# Altium footprint library Axial Inductors.PcbLib: 2 footprints
Each footprint in its own frame and in the unit in brackets; x right, y up, seen from the top. Pads: shape width x height; smd on the part's side, far side on the other; paste and mask are expansions set on the pad; w line width, h text height; cw(c..) or ccw(c..) is an arc to the next point about the centre after c.
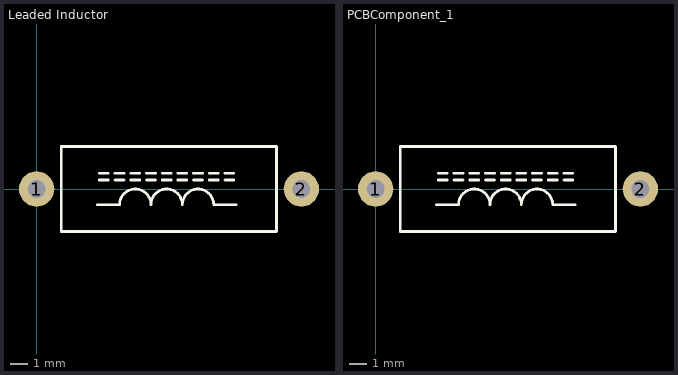
[diagram p0: the footprints below, top view; thin cyan lines are the x and y axes]

## Leaded Inductor [mm] "100mH Unshielded Wirewound Inductor 20mA 420 Ohm Max Axial"
pads (2):
  round 2 hole 1: 1(0,0) 2(15,0)
Top Overlay:
  lines w0.152: 3.429,-0.889 4.699,-0.889 cw(c5.588,-0.889) 6.477,-0.889 cw(c7.366,-0.889) 8.255,-0.889 cw(c9.144,-0.889) 10.033,-0.889 11.303,-0.889 ; 3.556,0.508 4.064,0.508 ; 3.556,0.889 4.064,0.889 ; 4.445,0.508 4.953,0.508 ; 4.445,0.889 4.953,0.889 ; 5.334,0.508 5.842,0.508 ; 5.334,0.889 5.842,0.889 ; 6.223,0.508 6.731,0.508 ; 6.223,0.889 6.731,0.889 ; 7.112,0.508 7.62,0.508 ; 7.112,0.889 7.62,0.889 ; 8.001,0.508 8.509,0.508 ; 8.001,0.889 8.509,0.889 ; 8.89,0.508 9.398,0.508 ; 8.89,0.889 9.398,0.889 ; 9.779,0.508 10.287,0.508 ; 9.779,0.889 10.287,0.889 ; 10.668,0.508 11.176,0.508 ; 10.668,0.889 11.176,0.889 ; 1.397,-2.413 13.589,-2.413 13.589,2.413 1.397,2.413 1.397,-2.413
3D body "axial_inductor.STEP": height 4.79, standoff -1.96, extent -0.381,-2.25 15.319,2.25

## PCBComponent_1 [mm]
pads (2):
  round 2 hole 1: 1(0,0) 2(15,0)
Top Overlay:
  lines w0.152: 3.429,-0.889 4.699,-0.889 cw(c5.588,-0.889) 6.477,-0.889 cw(c7.366,-0.889) 8.255,-0.889 cw(c9.144,-0.889) 10.033,-0.889 11.303,-0.889 ; 3.556,0.508 4.064,0.508 ; 3.556,0.889 4.064,0.889 ; 4.445,0.508 4.953,0.508 ; 4.445,0.889 4.953,0.889 ; 5.334,0.508 5.842,0.508 ; 5.334,0.889 5.842,0.889 ; 6.223,0.508 6.731,0.508 ; 6.223,0.889 6.731,0.889 ; 7.112,0.508 7.62,0.508 ; 7.112,0.889 7.62,0.889 ; 8.001,0.508 8.509,0.508 ; 8.001,0.889 8.509,0.889 ; 8.89,0.508 9.398,0.508 ; 8.89,0.889 9.398,0.889 ; 9.779,0.508 10.287,0.508 ; 9.779,0.889 10.287,0.889 ; 10.668,0.508 11.176,0.508 ; 10.668,0.889 11.176,0.889 ; 1.397,-2.413 1.397,2.413 13.589,2.413 13.589,-2.413 1.397,-2.413
3D body "axial_inductor.STEP": height 4.79, standoff -1.96, extent -0.381,-2.25 15.319,2.25